# Altium schematic symbol library Cole_.SchLib: 330 symbols (part 1 of 10)
Pins are listed as number, name and electrical type; pins without a type are passive.

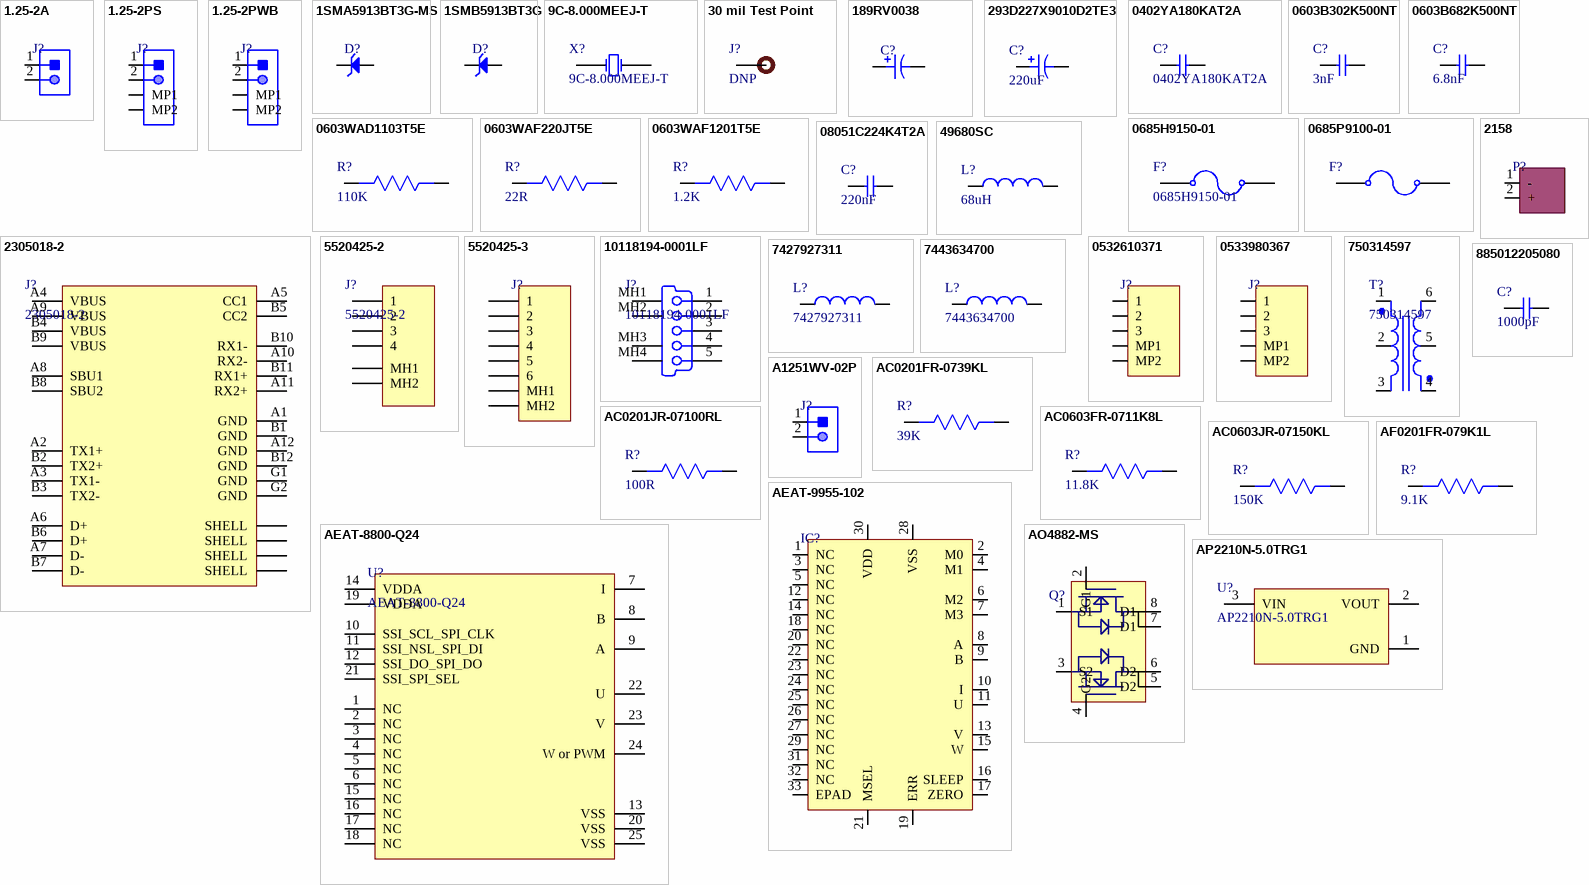
[diagram p0: symbols 1.25-2A to AP2210N-5.0TRG1]

## 1.25-2A
designator J?
1x2P 1 1.25mm Male pin 2 -25℃~+85℃ Straight Plugin,P=1.25mm Wire To Board / Wire To Wire Connector ROHS; Manufacturer: DEALON; Manufacturer Part Number: 1.25-2A; Item Type: Wire To Board Connector; ComponentLink1Description: LCSC; ComponentLink1URL: https://www.lcsc.com/product-detail/Wire-To-Board-Wire-To-Wire-Connector_DEALON-1-25-2A_C2904930.html; Package: Plugin,P=1.25mm; LCSC Part Number: C2904930
footprint 1.25-2A
pins: 1, 2

## 1.25-2PS
designator J?
1x2P 1 1.25mm Male pin 2 -65℃~+125℃ Brick nogging SMD,P=1.25mm Wire To Board / Wire To Wire Connector ROHS; Manufacturer: DEALON; Manufacturer Part Number: 1.25-2PS; Item Type: Wire To Board Connector; Package: SMD,P=1.25mm; LCSC Part Number: C2904989; ComponentLink1Description: LCSC; ComponentLink1URL: https://www.lcsc.com/product-detail/Wire-To-Board-Wire-To-Wire-Connector_DEALON-1-25-2PS_C2904989.html
footprint 1.25-2PS
pins: 1, 2, MP1, MP2

## 1.25-2PWB
designator J?
1x2P 2P 1 1.25mm 2 -40℃~+85℃ Surface Mount SMD,P=1.25mm,Surface Mount，Right Angle Wire To Board / Wire To Wire Connector ROHS; Manufacturer: DEALON; Manufacturer Part Number: 1.25-2PWB; Item Type: Wire To Board Connector; Package: SMD,P=1.25mm Right Angle; LCSC Part Number: C2905009; ComponentLink1Description: LCSC; ComponentLink1URL: https://www.lcsc.com/product-detail/Wire-To-Board-Wire-To-Wire-Connector_DEALON-1-25-2PWB_C2905009.html
footprint 1.25-2PWB
pins: 1, 2, MP1, MP2

## 1SMA5913BT3G-MS
designator D?
Single 1.5W 3.13V~3.47V 3.3V SMA Zener Diodes ROHS; Manufacturer: MSKSEMI; Manufacturer Part Number: 1SMA5913BT3G-MS; Package: SMA; LCSC Part Number: C18547722; Item Type: Zener Diode; ComponentLink1Description: LCSC; ComponentLink1URL: https://www.lcsc.com/product-detail/Zener-Diodes_MSKSEMI-1SMA5913BT3G-MS_C18547722.html
footprint SMA
pins: 1 C, 2 A

## 1SMB5913BT3G
designator D?
DIODE ZENER 3.3V 3W SMB; Manufacturer: ON Semiconductor; Manufacturer Part Number: 1SMB5913BT3G; Item Type: Zener Diodes; Supplier: Mouser; Supplier Part Number: 863-1SMB5913BT3G; RoHS: Yes; Stock: 11628; Pricing: 1=0.45, 10=0.275, 50=0.275, 100=0.142, 1000=0.112, 10000=0.091 (USD); ComponentLink1URL: https://datasheet.ciiva.com/15142/getdatasheetpartid-93375-15142588.pdf?src-supplier=Verical; ComponentLink1Description: https://datasheet.ciiva.com/15142/getdatasheetpartid-93375-15142588.pdf?src-supplier=Verical; ComponentLink2URL: https://datasheet.ciiva.com/29704/2015265-29704013.pdf?src-supplier=Jameco; ComponentLink2Description: https://datasheet.ciiva.com/29704/2015265-29704013.pdf?src-supplier=Jameco; ComponentLink3URL: https://datasheet.ciiva.com/8026/1smb5913bt3-d-8026935.pdf?src-supplier=Element14; ComponentLink3Description: https://datasheet.ciiva.com/8026/1smb5913bt3-d-8026935.pdf?src-supplier=Element14; ComponentLink4URL: https://datasheet.ciiva.com/1182/1smb5913bt3-d-1182601.pdf?src-supplier=Element14; ComponentLink4Description: https://datasheet.ciiva.com/1182/1smb5913bt3-d-1182601.pdf?src-supplier=Element14; ComponentLink5URL: https://datasheet.ciiva.com/1182/1smb5913bt3-d-1182647.pdf?src-supplier=Element14; ComponentLink5Description: https://datasheet.ciiva.com/1182/1smb5913bt3-d-1182647.pdf?src-supplier=Element14; ComponentLink6URL: https://datasheet.ciiva.com/23699/1571994-23699418.pdf?src-supplier=Newark; ComponentLink6Description: https://datasheet.ciiva.com/23699/1571994-23699418.pdf?src-supplier=Newark; ComponentLink7URL: https://datasheet.ciiva.com/22620/1smb5913bt3-d-22620236.pdf?src-supplier=Farnell; ComponentLink7Description: https://datasheet.ciiva.com/22620/1smb5913bt3-d-22620236.pdf?src-supplier=Farnell; ComponentLink8URL: https://datasheet.ciiva.com/8345/1smb5913bt3-d-8345910.pdf?src-supplier=Avnet; ComponentLink8Description: https://datasheet.ciiva.com/8345/1smb5913bt3-d-8345910.pdf?src-supplier=Avnet; ComponentLink9URL: https://datasheet.ciiva.com/8346/1smb5913bt3-d-8346583.pdf?src-supplier=Avnet; ComponentLink9Description: https://datasheet.ciiva.com/8346/1smb5913bt3-d-8346583.pdf?src-supplier=Avnet; ComponentLink10URL: https://datasheet.ciiva.com/895/1smb5913bt3-d-895188.pdf?src-supplier=Digikey; ComponentLink10Description: https://datasheet.ciiva.com/895/1smb5913bt3-d-895188.pdf?src-supplier=Digikey; ComponentLink11URL: https://datasheet.ciiva.com/895/1smb5913bt3-d-895189.pdf?src-supplier=Digikey; ComponentLink11Description: https://datasheet.ciiva.com/895/1smb5913bt3-d-895189.pdf?src-supplier=Digikey; ComponentLink12URL: https://datasheet.ciiva.com/895/1smb5913bt3-d-895190.pdf?src-supplier=Digikey; ComponentLink12Description: https://datasheet.ciiva.com/895/1smb5913bt3-d-895190.pdf?src-supplier=Digikey; ComponentLink13URL: https://datasheet.ciiva.com/14559/70099466-14559623.pdf?src-supplier=Allied+Electronics; ComponentLink13Description: https://datasheet.ciiva.com/14559/70099466-14559623.pdf?src-supplier=Allied+Electronics; LCSC Part Number: C53169
footprint SMB
pins: 1 A, 2 C

## 9C-8.000MEEJ-T
designator X?
CRYSTAL 8.0000MHZ 18PF SMD; Manufacturer: TXC; Frequency: 8MHz; Frequency Tolerance: 10ppm; ESR (Equivalent Series Resistance): 80R; Supplier 1: Digi-Key; Manufacturer Part Number: 9C-8.000MEEJ-T; RoHS: Yes; Category: Crystals; Stock 1: 1187; Pricing 1: 1=0.54000, 10=0.45000, 50=0.40500, 100=0.36000, 500=0.34200 (USD); Mount: Surface Mount; Number of Pins: 2; Min Operating Temperature: -20°C; Max Operating Temperature: 70°C; Package Quantity: 1; Load Capacitance: 18pF; Packaging: Tape and Reel; Tolerance: 10ppm; Frequency Stability: 10ppm; Termination: SMD/SMT; Series: 9C; Length: 11.4mm; Width: 0.189inch; Height: 0.161inch; Depth: 4.8mm; REACH SVHC: No SVHC; RoHS Compliant: Yes; ComponentLink1URL: https://datasheet.ciiva.com/854/9c-accuracy-854480.pdf?src-supplier=Digi-Key; ComponentLink1Description: https://datasheet.ciiva.com/854/9c-accuracy-854480.pdf?src-supplier=Digi-Key; ComponentLink2URL: https://datasheet.ciiva.com/22698/1497895-22698807.pdf?src-supplier=Element14; ComponentLink2Description: https://datasheet.ciiva.com/22698/1497895-22698807.pdf?src-supplier=Element14; ComponentLink3URL: https://datasheet.ciiva.com/28498/1497895-28498909.pdf?src-supplier=Element14; ComponentLink3Description: https://datasheet.ciiva.com/28498/1497895-28498909.pdf?src-supplier=Element14; ComponentLink4URL: https://datasheet.ciiva.com/1357/1794112-1357151.pdf?src-supplier=Element14; ComponentLink4Description: https://datasheet.ciiva.com/1357/1794112-1357151.pdf?src-supplier=Element14; ComponentLink5URL: https://datasheet.ciiva.com/854/9c-accuracy-854481.pdf?src-supplier=Digi-Key; ComponentLink5Description: https://datasheet.ciiva.com/854/9c-accuracy-854481.pdf?src-supplier=Digi-Key; ComponentLink6URL: https://datasheet.ciiva.com/4945/9c-13007-4945864.pdf?src-supplier=Mouser; ComponentLink6Description: https://datasheet.ciiva.com/4945/9c-13007-4945864.pdf?src-supplier=Mouser; ComponentLink7URL: https://datasheet.ciiva.com/854/9c-accuracy-854479.pdf?src-supplier=Digi-Key; ComponentLink7Description: https://datasheet.ciiva.com/854/9c-accuracy-854479.pdf?src-supplier=Digi-Key; Supplier Part Number 1: 887-1263-1-ND
footprint 9C-8.000MEEJ-T (CRYSTAL 8.0000MHZ 18PF SMD)
pins: 1 OSC1, 2 OSC2

## 30 mil Test Point
designator J?, comment DNP
Testing Pad 30 mil Dia; Manufacturer Part Number: 30 mil Test Point; Item type: Test Point
footprint 30 mil Test Point
pins: 1

## 189RV0038
designator C?
220uF 63V 225mA@100KHz ±20% SMD,D10xL10.5mm Aluminum Electrolytic Capacitors - SMD ROHS; Manufacturer: KNSCHA; Manufacturer Part Number: 189RV0038; Package: SMD,D10xL10.5mm; LCSC Part Number: C7471900; Item Type: Capacitor; ComponentLink1Description: LCSC; ComponentLink1URL: https://www.lcsc.com/product-detail/Aluminum-Electrolytic-Capacitors-SMD_KNSCHA-189RV0038_C7471900.html
footprint 189RV0038
pins: 1, 2

## 293D227X9010D2TE3
designator C?, comment 220uF
Cap Tant Solid 220uF 10V D CASE 10% (7.3 X 4.3 X 2.8mm) SMD 7343-31 T/R; Manufacturer: Vishay Sprague; Manufacturer Part Number: 293D227X9010D2TE3; Dielectric Material: Tantalum; ESR (Equivalent Series Resistance): 600mR; Ripple Current: 500mA; Leakage Current: 22uA; Polarity: Polar; Dissipation Factor: 8%; Q Factor: 8; Supplier 1: Digi-Key; RoHS: Yes; Category: Tantalum Capacitors; Stock 1: 83; Pricing 1: 1=1.01000, 10=0.76700, 50=0.63700, 100=0.54860 (USD); Mount: Surface Mount,PCB; Case/Package: 2917; Case Code (Metric): 7343; Case Code (Imperial): 2917; Weight: 0.023634oz; Min Operating Temperature: -55°C; Max Operating Temperature: 125°C; Capacitance: 220uF; Tolerance: 10%; Package Quantity: 1; Voltage Rating: 10V; Packaging: Tape and Reel; Voltage Rating (DC): 10V; Termination: SMD/SMT; Voltage: 10V; Features: General Purpose; Series: TANTAMOUNT® 293D; Length: 7.3mm; Width: 0.169inch; Height: 2.8mm; Depth: 4.3mm; Height - Seated (Max): 0.122inch; Radiation Hardening: No; REACH SVHC: Unknown; Lead Free: Lead Free; RoHS Compliant: Yes; ComponentLink1URL: https://datasheet.ciiva.com/11793/0900766b80d97b37-11793276.pdf?src-supplier=RSComponents; ComponentLink1Description: https://datasheet.ciiva.com/11793/0900766b80d97b37-11793276.pdf?src-supplier=RSComponents; ComponentLink2URL: https://datasheet.ciiva.com/261/293d-261025.pdf?src-supplier=Digi-Key; ComponentLink2Description: https://datasheet.ciiva.com/261/293d-261025.pdf?src-supplier=Digi-Key; ComponentLink3URL: https://datasheet.ciiva.com/16308/293d-16308133.pdf?src-supplier=Future+Electronics; ComponentLink3Description: https://datasheet.ciiva.com/16308/293d-16308133.pdf?src-supplier=Future+Electronics; ComponentLink4URL: https://datasheet.ciiva.com/3003/293d-3003943.pdf?src-supplier=Avnet; ComponentLink4Description: https://datasheet.ciiva.com/3003/293d-3003943.pdf?src-supplier=Avnet; ComponentLink5URL: https://datasheet.ciiva.com/16631/293d-16631607.pdf?src-supplier=Avnet+Europe; ComponentLink5Description: https://datasheet.ciiva.com/16631/293d-16631607.pdf?src-supplier=Avnet+Europe; ComponentLink6URL: https://datasheet.ciiva.com/261/293d-261023.pdf?src-supplier=Digi-Key; ComponentLink6Description: https://datasheet.ciiva.com/261/293d-261023.pdf?src-supplier=Digi-Key; ComponentLink7URL: https://datasheet.ciiva.com/11245/293d-11245039.pdf?src-supplier=Avnet; ComponentLink7Description: https://datasheet.ciiva.com/11245/293d-11245039.pdf?src-supplier=Avnet; ComponentLink8URL: https://datasheet.ciiva.com/261/293d-261024.pdf?src-supplier=Digi-Key; ComponentLink8Description: https://datasheet.ciiva.com/261/293d-261024.pdf?src-supplier=Digi-Key; ComponentLink9URL: https://datasheet.ciiva.com/12884/293d-239871-12884357.pdf?src-supplier=Mouser; ComponentLink9Description: https://datasheet.ciiva.com/12884/293d-239871-12884357.pdf?src-supplier=Mouser; ComponentLink10URL: https://datasheet.ciiva.com/16470/293d-16470698.pdf?src-supplier=Avnet+Asia; ComponentLink10Description: https://datasheet.ciiva.com/16470/293d-16470698.pdf?src-supplier=Avnet+Asia; ComponentLink11URL: https://datasheet.ciiva.com/22695/438417-22695147.pdf?src-supplier=Element14; ComponentLink11Description: https://datasheet.ciiva.com/22695/438417-22695147.pdf?src-supplier=Element14; ComponentLink12URL: https://datasheet.ciiva.com/1463/438417-1463357.pdf?src-supplier=Element14; ComponentLink12Description: https://datasheet.ciiva.com/1463/438417-1463357.pdf?src-supplier=Element14; ComponentLink13URL: https://datasheet.ciiva.com/29244/456112-da-01-en-smd-kondensator-293d227x9010d2te3-500-st-29244261.pdf?src-supplier=Conrad; ComponentLink13Description: https://datasheet.ciiva.com/29244/456112-da-01-en-smd-kondensator-293d227x9010d2te3-500-st-29244261.pdf?src-supplier=Conrad; Supplier Part Number 1: 718-1072-1-ND
footprint 293D227X9010D2TE3 (220uF 10V, 2917)
pins: 1, 2

## 0402YA180KAT2A
designator C?
CAP CER 18PF 16V NP0 0402; Manufacturer: Kyocera AVX; Tolerance: 10%; Dielectric: C0G; Supplier 1: Digi-Key; Manufacturer Part Number: 0402YA180KAT2A; RoHS: Yes; Category: Ceramic Capacitors; Stock 1: 28789; Pricing 1: 1=0.10000, 10=0.03000, 50=0.01640, 100=0.01350, 500=0.00962, 1000=0.00756, 2500=0.00688, 5000=0.00632 (USD); Mount: Surface Mount; Case/Package: 0402; Number of Pins: 2; Case Code (Metric): 1005; Case Code (Imperial): 0402; Weight: 2.3E-05oz; Min Operating Temperature: -55°C; Max Operating Temperature: 125°C; Capacitance: 18pF; Voltage Rating: 16V; Packaging: Tape and Reel; Package Quantity: 10000; Voltage Rating (DC): 16V; Termination: SMD/SMT; Length: 1mm; Width: 0.02inch; Height: 0.56mm; Thickness: 0.022inch; Depth: 0.5mm; Radiation Hardening: No; REACH SVHC: Unknown; ComponentLink1URL: https://datasheet.ciiva.com/206/ccog-206568.pdf?src-supplier=Digi-Key; ComponentLink1Description: https://datasheet.ciiva.com/206/ccog-206568.pdf?src-supplier=Digi-Key; ComponentLink2URL: https://datasheet.ciiva.com/5444/ccog-243403-5444889.pdf?src-supplier=Mouser; ComponentLink2Description: https://datasheet.ciiva.com/5444/ccog-243403-5444889.pdf?src-supplier=Mouser; ComponentLink3URL: https://datasheet.ciiva.com/11568/ccog-11568446.pdf?src-supplier=Avnet; ComponentLink3Description: https://datasheet.ciiva.com/11568/ccog-11568446.pdf?src-supplier=Avnet; Supplier Part Number 1: 478-0402YA180KAT2ACT-ND
footprint Cap 0402
pins: 1, 2

## 0603B302K500NT
designator C?, comment 3nF
3nF ±10% 50V X7R 0603 Multilayer Ceramic Capacitors MLCC - SMD/SMT RoHS; Manufacturer: FH(Guangdong Fenghua Advanced Tech); Package: 0603; Capacitance: 3nF; Tolerance: ±10%; Voltage - Rated: 50V; Temperature Coefficient: X7R
footprint Cap 0603
pins: 1, 2

## 0603B682K500NT
designator C?, comment 6.8nF
50V 6.8nF X7R ±10% 0603; Manufacturer: FH; Manufacturer Part Number: 0603B682K500NT; ComponentLink1Description: LCSC; ComponentLink1URL: https://www.lcsc.com/product-detail/Multilayer-Ceramic-Capacitors-MLCC-SMD-SMT_FH-Guangdong-Fenghua-Advanced-Tech-0603B682K500NT_C1631.html; Footprint: 0603; Value: 6.8nF
footprint Cap 0603
pins: 1, 2

## 0603WAD1103T5E
designator R?, comment 110K
110kΩ 0603 Chip Resistor - Surface Mount ROHS; Manufacturer: UNI-ROYAL; Manufacturer Part Number: 0603WAD1103T5E; ComponentLink1Description: LCSC; ComponentLink1URL: https://www.lcsc.com/product-detail/Chip-Resistor-Surface-Mount_UNI-ROYAL-Uniroyal-Elec-0603WAD1103T5E_C423090.html; Value: 110K; Footprint: 0603
footprint Res0603
pins: 1, 2

## 0603WAF220JT5E
designator R?, comment 22R
22Ω 0603 Chip Resistor - Surface Mount ROHS; Manufacturer: UNI-ROYAL; Manufacturer Part Number: 0603WAF220JT5E; ComponentLink1Description: LCSC; ComponentLink1URL: https://www.lcsc.com/product-detail/Chip-Resistor-Surface-Mount_UNI-ROYAL-Uniroyal-Elec-0603WAF220JT5E_C23345.html; Footprint: 0603; Value: 22R
footprint Res0603
pins: 1, 2

## 0603WAF1201T5E
designator R?, comment 1.2K
±1% 1/10W Thick Film Resistors 75V ±100ppm/℃ -55℃~+155℃ 1.2kΩ 0603 Chip Resistor - Surface Mount ROHS; Manufacturer: UNI-ROYAL; Manufacturer Part No: 0603WAF1201T5E; Value: 1.2kΩ; Package: 0603
footprint Res0603
pins: 1, 2

## 0685H9150-01
designator F?
FUSE BOARD MNT 15A 125VAC 32VDC; Manufacturer: Bel; Fuse Type: Board Mount (Cartridge Style Excluded); Voltage Rating (AC): 125V; Voltage Rating (DC): 32V; DC Cold Resistance: 2.6mR; Approvals: cURus; Supplier 1: Digi-Key; Manufacturer Part Number: 0685H9150-01; RoHS: Yes; Category: Fuses; Stock 1: 31788; Pricing 1: 1=0.29000, 5=0.27800, 10=0.26600, 50=0.23780, 100=0.22140, 250=0.19680, 500=0.16400, 1000=0.15580 (USD); Mount: Surface Mount; Case/Package: 1206; Case Code (Imperial): 1206; Case Code (Metric): 3216; Min Operating Temperature: -55°C; Max Operating Temperature: 125°C; Packaging: Tape and Reel; Current Rating: 15A; RoHS Compliant: Yes; ComponentLink1URL: http://www.farnell.com/datasheets/2571626.pdf?src-supplier=Farnell; ComponentLink1Description: http://www.farnell.com/datasheets/2571626.pdf?src-supplier=Farnell; ComponentLink2URL: http://www.farnell.com/datasheets/2571626.pdf?src-supplier=Newark; ComponentLink2Description: http://www.farnell.com/datasheets/2571626.pdf?src-supplier=Newark; ComponentLink3URL: https://belfuse.com/resources/datasheets/circuitprotection/ds-cp-c1h-series.pdf?src-supplier=Digi-Key; ComponentLink3Description: https://belfuse.com/resources/datasheets/circuitprotection/ds-cp-c1h-series.pdf?src-supplier=Digi-Key; Supplier Part Number 1: 507-1944-1-ND
footprint 0685H9150-01
pins: 1, 2

## 0685P9100-01
designator F?
FUSE BOARD MOUNT 10A 50VDC 1206; Manufacturer: Bel; Manufacturer Part Number: 0685P9100-01; Item Type: Fuses; Supplier: Digikey; Supplier Part Number: 507-2454-1-ND; RoHS: Yes; Stock: 90526; Pricing: 1=0.42, 5=0.404, 10=0.391, 50=0.3292, 100=0.2734, 250=0.24848, 500=0.21876 (USD); ComponentLink1URL: https://belfuse.com/resources/datasheets/circuitprotection/ds-CP-0685P-series.pdf?src-supplier=Digikey; ComponentLink1Description: https://belfuse.com/resources/datasheets/circuitprotection/ds-CP-0685P-series.pdf?src-supplier=Digikey; ComponentLink2URL: https://datasheet.octopart.com/0685P9100-01-Bel-Fuse-datasheet-150536702.pdf?src-supplier=Sager+Electronics; ComponentLink2Description: https://datasheet.octopart.com/0685P9100-01-Bel-Fuse-datasheet-150536702.pdf?src-supplier=Sager+Electronics
footprint Fuse 1206 (3216 Metric) (0.126" L x 0.062" W x 0.026" H (3.20mm x 1.58mm x 0.65mm))
pins: 1, 2

## 2158
designator P?
XT60 Connector Male-Female Pair, Black (Pololu); Manufacturer: Polulo; Manufacturer Part Number: 2158; Item Type: Power Connector; Package: Custom
footprint 2158
pins: 1 -, 2 +

## 08051C224K4T2A
designator C?, comment 220nF
CAP CER 0.22UF 100V X7R 0805; Manufacturer: Kyocera AVX; Manufacturer Part Number: 08051C224K4T2A; Tolerance: 10%; Supplier 1: Digi-Key; RoHS: Yes; Category: Ceramic Capacitors; Stock 1: 151; Pricing 1: 1=0.27000, 10=0.18500, 50=0.12320, 100=0.10470, 500=0.07392, 1000=0.06468 (USD); Mount: Surface Mount; Case/Package: 0805; Contact Plating: Tin; Min Operating Temperature: -55°C; Max Operating Temperature: 125°C; Termination: Wraparound; Capacitance: 220nF; Dielectric: X7R; Voltage Rating (DC): 100V; Length: 2.01mm; RoHS Compliant: Yes; ComponentLink1URL: http://datasheets.avx.com/AutoMLCC.pdf?src-supplier=Avnet+Asia; ComponentLink1Description: http://datasheets.avx.com/AutoMLCC.pdf?src-supplier=Avnet+Asia; Supplier Part Number 1: 478-13049-1-ND
footprint Cap0805 (SMD 0805)
pins: 1, 2

## 49680SC
designator L?, comment 68uH
Fixed Inductors 68uH 2.0A SMT; Manufacturer: Murata; Manufacturer Part Number: 49680SC; Tolerance: 20%; DC Resistance (DCR): 143mR; Max DC Current: 2A; Q Factor: 47; Self Resonant Frequency: 7MHz; Shielding: Shielded; Test Frequency: 10kHz; Supplier 1: Digi-Key; RoHS: Yes; Category: Fixed Inductors; Stock 1: 170; Pricing 1: 1=1.69000, 10=1.56000, 25=1.43000, 50=1.22200, 100=1.09200, 250=0.93600 (USD); Mount: Surface Mount; Case/Package: Nonstandard; Number of Pins: 2; Min Operating Temperature: -40°C; Max Operating Temperature: 85°C; Inductance: 68uH; Inductance Tolerance: 20%; Packaging: Tape and Reel; Package Quantity: 500; Resistor Type: Wirewound; Current Rating: 2A; Termination: SMD/SMT; DC Current: 2A; Series: 4900S; Length: 12.5mm; Width: 0.48inch; Height: 8mm; Height - Seated (Max): 0.315inch; Depth: 12.5mm; Radiation Hardening: No; REACH SVHC: No SVHC; Military Standard: Not; RoHS Compliant: Yes; ComponentLink1URL: https://datasheet.ciiva.com/26947/getdatasheetpartid-788595-26947648.pdf?src-supplier=Verical; ComponentLink1Description: https://datasheet.ciiva.com/26947/getdatasheetpartid-788595-26947648.pdf?src-supplier=Verical; ComponentLink2URL: https://datasheet.ciiva.com/17279/kmp-4900s-17279451.pdf?src-supplier=Avnet+Europe; ComponentLink2Description: https://datasheet.ciiva.com/17279/kmp-4900s-17279451.pdf?src-supplier=Avnet+Europe; Supplier Part Number 1: 811-3628-1-ND
footprint 49680SC
pins: 1, 2

## 2305018-2
designator J?
CONN RCP USB3.1 TYPEC 24P SMD RA
footprint 2305018-2 (CONN RCP USB3.1 TYPEC 24P SMD RA)
pins: A1 GND (power), A2 TX1+, A3 TX1-, A4 VBUS (power), A5 CC1, A6 D+, A7 D-, A8 SBU1, A9 VBUS (power), A10 RX2-, A11 RX2+, A12 GND (power), B1 GND (power), B2 TX2+, B3 TX2-, B4 VBUS (power), B5 CC2, B6 D+, B7 D-, B8 SBU2, B9 VBUS (power), B10 RX1-, B11 RX1+, B12 GND (power), G1 GND (power), G2 GND (power), S1 SHELL, S2 SHELL, S3 SHELL, S4 SHELL

## 5520425-2
designator J?
Conn RJ-25 F 6 POS 2.54mm Solder ST Thru-Hole 4 Terminal 1 Port Tray Cat 3; Manufacturer: TE Connectivity; Number of Terminals/Pins: 4; Number of Contacts: 6; Connector Type: Jack; Keyed: No; Element Configuration: Single; Number of Ports: 1; Gender: Female; Shielding: Unshielded; Max Voltage Rating (AC): 150V; Direction: User Selectable; PCB Mounting Orientation: Vertical; Current Rating: 1.5A; Contact Resistance: 30mR; Tail Length: 3.18mm; PCB Thickness: 1.57mm; Plating Thickness: 1.27um; Approvals: UL,CSA; Supplier 1: Digi-Key; Manufacturer Part Number: 5520425-2; RoHS: Yes; Category: Modular / Ethernet Connectors; Stock 1: 1404; Pricing 1: 1=1.77000, 10=1.60700, 25=1.50880, 40=1.44325, 176=1.37773, 352=1.24651, 528=1.14811, 1056=0.98408, 2464=0.91848 (USD); Contact Material: Bronze; Contact Plating: Gold; Housing Color: Black; Housing Material: PBT; Min Operating Temperature: -40°C; Max Operating Temperature: 70°C; Termination: Solder; Orientation: Straight; Number of Positions: 6; Number of Positions Loaded: 4; Package Quantity: 2816; Number of Rows: 1; Voltage Rating: 150V; Contact Gender: Female; Packaging: Tray; Length: 13.59mm; Width: 16.51mm; Pitch: 2.54mm; Depth: 16.01mm; Radiation Hardening: No; Flammability Rating: UL94 V-0; REACH SVHC: Unknown; ComponentLink1URL: https://datasheet.ciiva.com/30494/0900766b8121ec00-30494433.pdf?src-supplier=RSComponents; ComponentLink1Description: https://datasheet.ciiva.com/30494/0900766b8121ec00-30494433.pdf?src-supplier=RSComponents; ComponentLink2URL: https://datasheet.ciiva.com/685/eng-cd-5520425-d1-685288.pdf?src-supplier=Digi-Key; ComponentLink2Description: https://datasheet.ciiva.com/685/eng-cd-5520425-d1-685288.pdf?src-supplier=Digi-Key; ComponentLink3URL: https://datasheet.ciiva.com/19476/956272-19476731.pdf?src-supplier=Jameco; ComponentLink3Description: https://datasheet.ciiva.com/19476/956272-19476731.pdf?src-supplier=Jameco; ComponentLink4URL: https://datasheet.ciiva.com/30082/eng-cs-82066-mod-jacks-and-mrj21-prod-single-1107-30082071.pdf?src-supplier=Onlinecomponents.com; ComponentLink4Description: https://datasheet.ciiva.com/30082/eng-cs-82066-mod-jacks-and-mrj21-prod-single-1107-30082071.pdf?src-supplier=Onlinecomponents.com; ComponentLink5URL: https://datasheet.ciiva.com/16650/eng-cs-82066-mod-jacks-and-mrj21-prod-single-1107-16650297.pdf?src-supplier=Avnet+Europe; ComponentLink5Description: https://datasheet.ciiva.com/16650/eng-cs-82066-mod-jacks-and-mrj21-prod-single-1107-16650297.pdf?src-supplier=Avnet+Europe; ComponentLink6URL: https://datasheet.ciiva.com/8007/492544-8007818.pdf?src-supplier=Element14; ComponentLink6Description: https://datasheet.ciiva.com/8007/492544-8007818.pdf?src-supplier=Element14; ComponentLink7URL: https://datasheet.ciiva.com/3138/eng-cs-82066-mod-jacks-and-mrj21-prod-single-1107-3138668.pdf?src-supplier=Avnet; ComponentLink7Description: https://datasheet.ciiva.com/3138/eng-cs-82066-mod-jacks-and-mrj21-prod-single-1107-3138668.pdf?src-supplier=Avnet; ComponentLink8URL: https://datasheet.ciiva.com/14619/70042945-14619165.pdf?src-supplier=Allied+Electronics; ComponentLink8Description: https://datasheet.ciiva.com/14619/70042945-14619165.pdf?src-supplier=Allied+Electronics; Supplier Part Number 1: A31414-ND
footprint 5520425-2 (CONN MOD JACK 6P4C VERT UNSHLD)
pins: 1, 2, 3, 4, MH1, MH2

## 5520425-3
designator J?
CONN MOD JACK 6P6C VERT UNSHLD; Manufacturer: AMP - TE CONNECTIVITY; Manufacturer Part Number: 5520425-3; Supplier 1: Newark; RoHS: No; Category: Modular / Ethernet Connectors; ComponentLink1URL: http://www.tycoelectronics.com/catalog/pn/en/5520425-3?src-supplier=Farnell; ComponentLink1Description: http://www.tycoelectronics.com/catalog/pn/en/5520425-3?src-supplier=Farnell; ComponentLink2URL: http://www.farnell.com/datasheets/492544.pdf?src-supplier=Newark; ComponentLink2Description: http://www.farnell.com/datasheets/492544.pdf?src-supplier=Newark; ComponentLink3URL: http://www.tycoelectronics.com/catalog/pn/en/5520425-3?src-supplier=Newark; ComponentLink3Description: http://www.tycoelectronics.com/catalog/pn/en/5520425-3?src-supplier=Newark; ComponentLink4URL: https://www.te.com/commerce/DocumentDelivery/DDEController?Action=srchrtrv&DocNm=5520425&DocType=Customer+Drawing&DocLang=English&src-supplier=Digi-Key; ComponentLink4Description: https://www.te.com/commerce/DocumentDelivery/DDEController?Action=srchrtrv&DocNm=5520425&DocType=Customer+Drawing&DocLang=English&src-supplier=Digi-Key; Supplier Part Number 1: 52R4230
footprint 5520425-3
pins: 1, 2, 3, 4, 5, 6, MH1, MH2

## 10118194-0001LF
designator J?
CONN RCPT USB2.0 MICRO B SMD R/A; Manufacturer: Amphenol FCI; Gender: Receptacle; Current Rating: 1.8A; Connector Type: USB,Receptacle; Number of Contacts: 5; Insulation Resistance: 1GR; Number of Ports: 1; Max Voltage Rating (AC): 100V; Pitch: 0.65mm; Supplier 1: Digi-Key; Manufacturer Part Number: 10118194-0001LF; Stock 1: 35943; Pricing 1: 1=0.43, 10=0.405, 25=0.3648, 50=0.3242, 100=0.3107, 250=0.28368, 500=0.27016 (USD); Mount: Surface Mount,Horizontal; Color: Black; Contact Material: Copper Alloy; Contact Plating: Gold; Number of Terminals: 5; Housing Material: Polymer; Min Operating Temperature: -55°C; Max Operating Temperature: 85°C; Package Quantity: 9600; Packaging: Tape and Reel; Termination: Solder; Orientation: Right Angle; Features: Shielded; Length: 8.05mm; Depth: 5mm; Radiation Hardening: No; Lead Free: Lead Free; Flammability Rating: UL94 V-0; ComponentLink1URL: http://www.amphenol-icc.com/media/wysiwyg/files/drawing/10118194.pdf?src-supplier=Digi-Key; ComponentLink1Description: http://www.amphenol-icc.com/media/wysiwyg/files/drawing/10118194.pdf?src-supplier=Digi-Key; ComponentLink2URL: https://cdn.amphenol-icc.com/media/wysiwyg/files/drawing/10118194.pdf?src-supplier=Mouser; ComponentLink2Description: https://cdn.amphenol-icc.com/media/wysiwyg/files/drawing/10118194.pdf?src-supplier=Mouser; ComponentLink3URL: https://cdn.amphenol-icc.com/media/wysiwyg/files/drawing/10118194.pdf?src-supplier=Verical; ComponentLink3Description: https://cdn.amphenol-icc.com/media/wysiwyg/files/drawing/10118194.pdf?src-supplier=Verical; Supplier Part Number 1: 609-4618-1-ND
footprint 10118194-0001LF
pins: 1 V BUS (5V) "USB Vcc [Red]", 2 D- "USB Data - [White]", 3 D+ "USB Data + [Green]", 4 NC "Not Connected (or joined to pin 5 via resistor)", 5 GND "Ground [Black]", MH1 Tab "Shell", MH2 Tab "Shell", MH3 Tab "Shell", MH4 Tab "Shell"

## 0532610371
designator J?
CONN HEADER SMD R/A 3POS 1.25MM; Manufacturer: Molex; Manufacturer Part Number: 53261-0371; Item Type: Right Angle JST; Supplier: Mouser; Supplier Part Number: 538-53261-0371; RoHS: Yes; Category: Headers and Wire Housings; Stock: 46452; Pricing: 1=0.69, 10=0.582, 50=0.582, 100=0.452, 1000=0.359, 10000=0.275 (USD)
footprint 0532610371
pins: 1, 2, 3, MP1, MP2

## 0533980367
designator J?
CONN HEADER SMD 3POS 1.25MM; Manufacturer: Molex; Manufacturer Part Number: 0533980367; Supplier: Mouser; Supplier Part Number: 538-53398-0367; RoHS: Yes; Stock: 6777; Pricing: 1=1.41, 10=1.16, 50=1.16, 100=0.963, 1000=0.77, 10000=0.625 (USD); ComponentLink1URL: https://datasheet.ciiva.com/2944/533980367-sd-2944045.pdf?src-supplier=Digi-Key; ComponentLink1Description: https://datasheet.ciiva.com/2944/533980367-sd-2944045.pdf?src-supplier=Digi-Key
footprint 0533980367
pins: 1, 2, 3, MP1, MP2

## 750314597
designator T?
XFRMR ISOL BUCK DC/DC CONV SMD; Manufacturer: Wurth Electronics Midcom; Frequency: 150kHz; Supplier 1: Digi-Key; Manufacturer Part Number: 750314597; RoHS: Yes; Category: Power Supply Modules; Stock 1: 1132; Pricing 1: 1=3.57000, 10=3.30600, 50=3.00500, 100=2.73200 (USD); Mount: Surface Mount; Min Operating Temperature: -40°C; Max Operating Temperature: 125°C; Packaging: Tape and Reel; RoHS Compliant: No; ComponentLink1URL: http://www.mouser.com/ds/2/445/750314597-773587.pdf?src-supplier=Mouser; ComponentLink1Description: http://www.mouser.com/ds/2/445/750314597-773587.pdf?src-supplier=Mouser; ComponentLink2URL: https://katalog.we-online.de/ctm/datasheet/750314597.pdf?src-supplier=Digi-Key; ComponentLink2Description: https://katalog.we-online.de/ctm/datasheet/750314597.pdf?src-supplier=Digi-Key; Supplier Part Number 1: 1297-1165-1-ND
footprint 750314597
pins: 1 PRI_1, 2 NC, 3 PRI_2, 4 SEC_1, 5 NC, 6 SEC_2

## 7427927311
designator L?
FERRITE BEAD 120 OHM 0402 1LN; Manufacturer: Wurth Electronics; Tolerance: 25%; Current Rating: 1.2A; Impedance: 120R; DC Resistance (DCR): 90mR; Test Frequency: 100MHz; Number of Lines: 1; Supplier 1: Digi-Key; Manufacturer Part Number: 7427927311; RoHS: Yes; Category: Ferrite Beads and Chips; Stock 1: 135072; Pricing 1: 1=0.17000, 50=0.16800, 100=0.15500, 500=0.14800, 1000=0.14100, 2000=0.13400 (USD); Mount: Surface Mount; Case/Package: SMD/SMT; Case Code (Metric): 1005; Case Code (Imperial): 0402; Material: Ferrite; Min Operating Temperature: -55°C; Max Operating Temperature: 125°C; Packaging: Tape and Reel; Package Quantity: 1; Max Current Rating: 1.2A; Max DC Current: 1.2A; Termination: SMD/SMT; Series: WE-CBF; Length: 1mm; Width: 0.5mm; Height: 0.5mm; Depth: 0.5mm; REACH SVHC: Unknown; RoHS Compliant: Yes; Lead Free: Lead Free; ComponentLink1URL: https://datasheet.ciiva.com/30489/0900766b812a677a-30489140.pdf?src-supplier=RSComponents; ComponentLink1Description: https://datasheet.ciiva.com/30489/0900766b812a677a-30489140.pdf?src-supplier=RSComponents; ComponentLink2URL: https://datasheet.ciiva.com/4939/7427927311-17568-4939413.pdf?src-supplier=Mouser; ComponentLink2Description: https://datasheet.ciiva.com/4939/7427927311-17568-4939413.pdf?src-supplier=Mouser; ComponentLink3URL: https://datasheet.ciiva.com/23763/7427927311-23763033.pdf?src-supplier=Newark; ComponentLink3Description: https://datasheet.ciiva.com/23763/7427927311-23763033.pdf?src-supplier=Newark; ComponentLink4URL: https://datasheet.ciiva.com/1013/7427927311-1013500.pdf?src-supplier=Digi-Key; ComponentLink4Description: https://datasheet.ciiva.com/1013/7427927311-1013500.pdf?src-supplier=Digi-Key; ComponentLink5URL: https://datasheet.ciiva.com/1013/7427927311-1013501.pdf?src-supplier=Digi-Key; ComponentLink5Description: https://datasheet.ciiva.com/1013/7427927311-1013501.pdf?src-supplier=Digi-Key; ComponentLink6URL: https://datasheet.ciiva.com/1013/7427927311-1013502.pdf?src-supplier=Digi-Key; ComponentLink6Description: https://datasheet.ciiva.com/1013/7427927311-1013502.pdf?src-supplier=Digi-Key; Supplier Part Number 1: 732-2366-1-ND
footprint 7427927311 (FERRITE BEAD 120 OHM 0402 1LN)
pins: 1, 2

## 7443634700
designator L?
FIXED IND 47UH 12A 12.2 MOHM SMD; Manufacturer: Wurth Electronics; Manufacturer Part Number: 7443631000; Core Material: Ferrite; Current Rating: 16A; Saturation Current: 23A; Tolerance: 15%; Shielding: Shielded; Self Resonant Frequency: 13MHz; Inductance: 10uH; Resistance: 7.96R; DC Resistance (DCR): 7.96mR; Test Frequency: 100kHz; Supplier 1: RSComponents; RoHS: Yes; Category: Fixed Inductors; Stock 1: 254; Pricing 1: 1=6.58000, 10=4.90000, 20=4.57000, 50=4.22000, 100=4.01000 (GBP); Mount: Surface Mount; Case/Package: Nonstandard; Number of Pins: 3; Min Operating Temperature: -40°C; Max Operating Temperature: 125°C; Package Quantity: 100; Packaging: Cut Tape; Inductance Tolerance: 15%; Frequency: 13MHz; Resistor Type: Wirewound; Max DC Current: 16A; Termination: SMD/SMT; RMS Current (Irms): 16A; Series: WE-HCF; Length: 21.5mm; Width: 0.827inch; Height: 14mm; Height - Seated (Max): 0.551inch; Depth: 21mm; REACH SVHC: Unknown; RoHS Compliant: Yes; ComponentLink1URL: https://datasheet.ciiva.com/1053/7443631000-1053041.pdf?src-supplier=Digi-Key; ComponentLink1Description: https://datasheet.ciiva.com/1053/7443631000-1053041.pdf?src-supplier=Digi-Key; ComponentLink2URL: https://datasheet.ciiva.com/4961/7443631000-32075-4961366.pdf?src-supplier=Mouser; ComponentLink2Description: https://datasheet.ciiva.com/4961/7443631000-32075-4961366.pdf?src-supplier=Mouser; ComponentLink3URL: https://datasheet.ciiva.com/7265/1243404-7265034.pdf?src-supplier=Newark; ComponentLink3Description: https://datasheet.ciiva.com/7265/1243404-7265034.pdf?src-supplier=Newark; ComponentLink4URL: https://datasheet.ciiva.com/7765/1735809-7765147.pdf?src-supplier=Element14; ComponentLink4Description: https://datasheet.ciiva.com/7765/1735809-7765147.pdf?src-supplier=Element14; ComponentLink5URL: https://datasheet.ciiva.com/11801/0900766b80febd1c-11801949.pdf?src-supplier=RSComponents; ComponentLink5Description: https://datasheet.ciiva.com/11801/0900766b80febd1c-11801949.pdf?src-supplier=RSComponents; ComponentLink6URL: https://datasheet.ciiva.com/1053/7443631000-1053042.pdf?src-supplier=Digi-Key; ComponentLink6Description: https://datasheet.ciiva.com/1053/7443631000-1053042.pdf?src-supplier=Digi-Key; ComponentLink7URL: https://datasheet.ciiva.com/1053/7443631000-1053043.pdf?src-supplier=Digi-Key; ComponentLink7Description: https://datasheet.ciiva.com/1053/7443631000-1053043.pdf?src-supplier=Digi-Key; Supplier Part Number 1: 7445047
footprint 7443634700
pins: 1, 2

## 885012205080
designator C?, comment 1000pF
CAP CER 1000PF 100V X7R 0402; Manufacturer: Wurth Electronics; Manufacturer Part Number: 885012205080; Supplier 1: Digi-Key; RoHS: Yes; Stock 1: 13604; Pricing 1: 1=0.10000, 10=0.01900, 100=0.01730, 500=0.01532 (USD); ComponentLink1URL: https://katalog.we-online.de/pbs/datasheet/885012205080.pdf?src-supplier=Digi-Key; ComponentLink1Description: https://katalog.we-online.de/pbs/datasheet/885012205080.pdf?src-supplier=Digi-Key; Supplier Part Number 1: 732-12243-1-ND
footprint Cap 0402
pins: 1, 2

## A1251WV-02P
designator J?
1x2P 1 1.25mm Male pin 2 -25℃~+85℃ 1A Straight Plugin,P=1.25mm Wire To Board / Wire To Wire Connector ROHS; Manufacturer: HR(Joint Tech Elec); Manufacturer Part Number: A1251WV-02P; Item Type: Wire To Board Connector; ComponentLink1Description: LCSC; ComponentLink1URL: https://www.lcsc.com/product-detail/Wire-To-Board-Wire-To-Wire-Connector_HR-Joint-Tech-Elec-A1251WV-02P_C462105.html; Package: Plugin,P=1.25mm; LCSC Part Number: C462105
footprint A1251WV-02P
pins: 1, 2

## AC0201FR-0739KL
designator R?, comment 39K
RES SMD 39K OHM 1% 1/20W 0201; Manufacturer: Yageo; Manufacturer Part Number: AC0201FR-0739KL; Resistance: 39kR; Max Power Dissipation: 50mW; Temperature Coefficient: 200ppm/°C; Supplier 1: Digi-Key; RoHS: Yes; Category: Chip SMD Resistors; Stock 1: 15940; Pricing 1: 1=0.10000, 10=0.06600, 100=0.02670, 1000=0.01201, 2500=0.01042, 5000=0.00861 (USD); Case/Package: 0201; Min Operating Temperature: -55°C; Max Operating Temperature: 155°C; Packaging: Tape and Reel; Resistor Type: Thick Film; Number of Terminations: 2; Tolerance: 1%; Features: Moisture Resistant,Automotive AEC-Q200; Length: 0.024inch; Width: 0.012inch; Height: 0.01inch; RoHS Compliant: Yes; ComponentLink1URL: http://www.yageo.com/NewPortal/yageodocoutput?fileName=/pdf/R-Chip/PYu-AC_51_RoHS_L_6.pdf&src-supplier=Digi-Key; ComponentLink1Description: http://www.yageo.com/NewPortal/yageodocoutput?fileName=/pdf/R-Chip/PYu-AC_51_RoHS_L_6.pdf&src-supplier=Digi-Key; ComponentLink2URL: http://www.yageo.com/NewPortal/yageodocoutput?fileName=/pdf/R-Chip/PYu-AC_51_RoHS_L_5.pdf&src-supplier=Digi-Key; ComponentLink2Description: http://www.yageo.com/NewPortal/yageodocoutput?fileName=/pdf/R-Chip/PYu-AC_51_RoHS_L_5.pdf&src-supplier=Digi-Key; Supplier Part Number 1: YAG5203CT-ND
footprint Res-0201
pins: 1, 2

## AC0201JR-07100RL
designator R?, comment 100R
RES SMD 100 OHM 5% 1/20W 0201; Manufacturer: Yageo; Manufacturer Part Number: AC0201JR-07100RL; Max Power Dissipation: 50mW; Temperature Coefficient: 200ppm/°C; Supplier 1: Digi-Key; RoHS: Yes; Category: Chip SMD Resistors; Stock 1: 7800; Pricing 1: 1=0.10000, 10=0.04900, 100=0.02000, 1000=0.00899, 2500=0.00780, 5000=0.00645 (USD); Case/Package: 0201; Case Code (Imperial): 0201; Case Code (Metric): 0603; Min Operating Temperature: -55°C; Max Operating Temperature: 155°C; Tolerance: 5%; Packaging: Tape and Reel; Resistance: 100R; Resistor Type: Thick Film; Number of Terminations: 2; Features: Moisture Resistant,Automotive AEC-Q200; Length: 0.024inch; Width: 0.012inch; Height: 0.01inch; ComponentLink1URL: http://www.yageo.com/NewPortal/yageodocoutput?fileName=/pdf/R-Chip/PYu-AC_51_RoHS_L_6.pdf&src-supplier=Digi-Key; ComponentLink1Description: http://www.yageo.com/NewPortal/yageodocoutput?fileName=/pdf/R-Chip/PYu-AC_51_RoHS_L_6.pdf&src-supplier=Digi-Key; Supplier Part Number 1: YAG3429CT-ND
footprint Res-0201
pins: 1, 2

## AC0603FR-0711K8L
designator R?, comment 11.8K
RES SMD 11.8K OHM 1% 1/10W 0603; Manufacturer: Yageo; Manufacturer Part Number: AC0603FR-0711K8L; Resistance: 11.8kR; Max Power Dissipation: 100mW; Temperature Coefficient: 100ppm/°C; Supplier 1: Avnet; RoHS: Yes; Category: Chip SMD Resistors; Pricing 1: 5000=0.00176, 10000=0.00174, 20000=0.00169, 30000=0.00165, 40000=0.00159, 50000=0.00155, 500000=0.00151 (USD); Case/Package: 0603; Min Operating Temperature: -55°C; Max Operating Temperature: 155°C; Packaging: Tape and Reel; Resistor Type: Thick Film; Number of Terminations: 2; Tolerance: 1%; Features: Moisture Resistant,Automotive AEC-Q200; Length: 0.063inch; Width: 0.031inch; Height: 0.022inch; RoHS Compliant: Yes; ComponentLink1URL: http://www.yageo.com/NewPortal/yageodocoutput?fileName=/pdf/R-Chip/PYu-AC_51_RoHS_L_6.pdf&src-supplier=Digi-Key; ComponentLink1Description: http://www.yageo.com/NewPortal/yageodocoutput?fileName=/pdf/R-Chip/PYu-AC_51_RoHS_L_6.pdf&src-supplier=Digi-Key; Supplier Part Number 1: AC0603FR-0711K8L
footprint Res0603
pins: 1, 2

## AC0603JR-07150KL
designator R?, comment 150K
RES SMD 150K OHM 5% 1/10W 0603; Manufacturer: Yageo; Manufacturer Part Number: AC0603JR-07150KL; Voltage Rating: 50V; Power Rating: 100mW; Resistance: 150kR; Temperature Coefficient: 100ppm/°C; Supplier 1: RSComponents; RoHS: Yes; Category: Chip SMD Resistors; Stock 1: 11500; Pricing 1: 2500=0.00800, 5000=0.00700, 7500=0.00700, 10000=0.00600 (GBP); Case/Package: 0603; Case Code (Imperial): 0603; Case Code (Metric): 1608; Weight: 7.1E-05oz; Min Operating Temperature: -55°C; Max Operating Temperature: 155°C; Packaging: Tape and Reel; Tolerance: 5%; Resistor Type: Thick Film; Number of Terminations: 2; Termination: SMD/SMT; Max Power Dissipation: 100mW; Features: Moisture Resistant,Automotive AEC-Q200; Series: AC; Length: 0.063inch; Width: 0.031inch; Height: 0.022inch; RoHS Compliant: Yes; ComponentLink1URL: https://datasheet.ciiva.com/12576/pyu-ac-51-rohs-l-2-12576426.pdf?src-supplier=Mouser; ComponentLink1Description: https://datasheet.ciiva.com/12576/pyu-ac-51-rohs-l-2-12576426.pdf?src-supplier=Mouser; Supplier Part Number 1: 1978118P
footprint Res0603
pins: 1, 2

## AEAT-8800-Q24
designator U?
ROTARY ENCODER MAGNETIC 4096PPR; Manufacturer: Broadcom Avago; Output Type: SSI; Pulses per Revolution: 4096; Detent: No; Supplier 1: Digi-Key; Manufacturer Part Number: AEAT-8800-Q24; RoHS: Yes; Stock 1: 4717; Pricing 1: 1=8.00000, 10=7.63600, 25=6.94480, 100=5.99940, 250=5.45400, 500=5.05404, 1000=4.69044 (USD); Mount: Surface Mount; Encoder Type: Magnetic; Built in Switch: No; Orientation: Vertical; Termination: SMD/SMT; RoHS Compliant: Yes; ComponentLink1URL: https://docs.broadcom.com/docs/pub-005906?src-supplier=Digi-Key; ComponentLink1Description: https://docs.broadcom.com/docs/pub-005906?src-supplier=Digi-Key; Supplier Part Number 1: 516-3787-ND
footprint QFN-24
pins: 1 NC, 2 NC, 3 NC, 4 NC, 5 NC, 6 NC, 7 I, 8 B, 9 A, 10 SSI_SCL_SPI_CLK, 11 SSI_NSL_SPI_DI, 12 SSI_DO_SPI_DO, 13 VSS, 14 VDDA, 15 NC, 16 NC, 17 NC, 18 NC, 19 VDDA, 20 VSS, 21 SSI_SPI_SEL, 22 U, 23 V, 24 W or PWM, 25 VSS

## AEAT-9955-102
designator IC?
18B SINGLE MAG ENC MULTIPLE AXIS; Manufacturer: Broadcom Limited; Itme Type: IC; Manufacturer Part Number: AEAT-9955; Package: 32-QFN; ComponentLink1Description: Mouser; ComponentLink1URL: https://eu.mouser.com/new/broadcom/broadcom-aeat9955-magnetic-encoder/?_gl=1*1w4ayrc*_ga*MTM5MjY1MjMxNy4xNzAwNjMzMjcy*_ga_15W4STQT4T*MTcwMDYzMzI3Mi4xLjAuMTcwMDYzMzI3NS41Ny4wLjA.
footprint 32-QFN (5x5) (32pins, 5x5mm body, 0.5mm pitch QFN package)
pins: 1 NC, 2 M0, 3 NC, 4 M1, 5 NC, 6 M2, 7 M3, 8 A, 9 B, 10 I, 11 U, 12 NC, 13 V, 14 NC, 15 W, 16 SLEEP, 17 ZERO, 18 NC, 19 ERR, 20 NC, 21 MSEL, 22 NC, 23 NC, 24 NC, 25 NC, 26 NC, 27 NC, 28 VSS, 29 NC, 30 VDD, 31 NC, 32 NC, 33 EPAD

## AF0201FR-079K1L
designator R?, comment 9.1K
RES SMD 9.1K OHM 1% 1/20W 0201; Manufacturer: Yageo; Manufacturer Part Number: AF0201FR-079K1L; Resistance: 9.1kR; Max Power Dissipation: 50mW; Temperature Coefficient: 200ppm/°C; Supplier 1: Avnet; RoHS: Yes; Category: Chip SMD Resistors; Pricing 1: 10000=0.00568, 20000=0.00560, 40000=0.00544, 60000=0.00532, 80000=0.00512, 100000=0.00500, 1000000=0.00488 (USD); Case/Package: 0201; Min Operating Temperature: -55°C; Max Operating Temperature: 125°C; Packaging: Tape and Reel; Resistor Type: Thick Film; Number of Terminations: 2; Tolerance: 1%; Features: Moisture Resistant,Anti-Sulfur; Length: 0.024inch; Width: 0.012inch; Height: 0.01inch; RoHS Compliant: Yes; ComponentLink1URL: http://www.yageo.com/documents/recent/PYu-AF_51_RoHS_L_5.pdf?src-supplier=Digi-Key; ComponentLink1Description: http://www.yageo.com/documents/recent/PYu-AF_51_RoHS_L_5.pdf?src-supplier=Digi-Key; Supplier Part Number 1: AF0201FR-079K1L
footprint Res-0201
pins: 1, 2

## AO4882-MS
designator Q?
40V 6A 25mΩ@10V,6A 1.9W 1.6V@250uA 76pF@15V 2 N-Channel 1.013nF@15V 9.8nC@4.5V -55℃~+150℃@(Tj) SOP-8 MOSFETs ROHS; Manufacturer: MSKSEMI; Manufacturer Part Number: AO4882-MS; Footprint: SOP-8; ComponentLink1Description: LCSC; ComponentLink1URL: https://www.lcsc.com/product-detail/MOSFETs_MSKSEMI-AO4882-MS_C2847038.html
footprint AO4882-MS
pins: 1 S1, 2 G1, 3 S2, 4 G2, 5 D2, 6 D2, 7 D1, 8 D1

## AP2210N-5.0TRG1
designator U?
IC REG LINEAR 5V 300MA SOT23-3; Manufacturer: Diodes; Dropout Voltage: 500mV; Number of Regulators: 1; Polarity: Positive; Quiescent Current: 180uA; Accuracy: 1%; Max Input Voltage: 13.2V; Min Input Voltage: 2.5V; Output Type: Fixed; Max Supply Current: 15mA; Power Supply Rejection Ratio (PSRR): 75dB; Supplier 1: Digi-Key; Manufacturer Part Number: AP2210N-5.0TRG1; RoHS: Yes; Category: Voltage Regulators - Linear; Stock 1: 28; Pricing 1: 1=0.43000, 10=0.32600, 25=0.29400, 100=0.20300, 250=0.17096, 500=0.13890, 1000=0.10685 (USD); Mount: Surface Mount; Case/Package: TO-236-3; Number of Pins: 3; Contact Plating: Tin; Min Operating Temperature: -40°C; Max Operating Temperature: 125°C; Packaging: Tape and Reel; Output Voltage: 5V; Output Current: 300mA; Number of Outputs: 1; Max Output Current: 300mA; Output Configuration: Positive; Min Output Voltage: 5V; RoHS Compliant: Yes; ComponentLink1URL: https://datasheet.ciiva.com/70043/ap2210-70043557.pdf?src-supplier=Digi-Key; ComponentLink1Description: https://datasheet.ciiva.com/70043/ap2210-70043557.pdf?src-supplier=Digi-Key; Supplier Part Number 1: AP2210N-5.0TRG1DICT-ND
footprint SOT-23 (TRANS NPN 40V 0.6A SOT23)
pins: 1 GND, 2 VOUT, 3 VIN

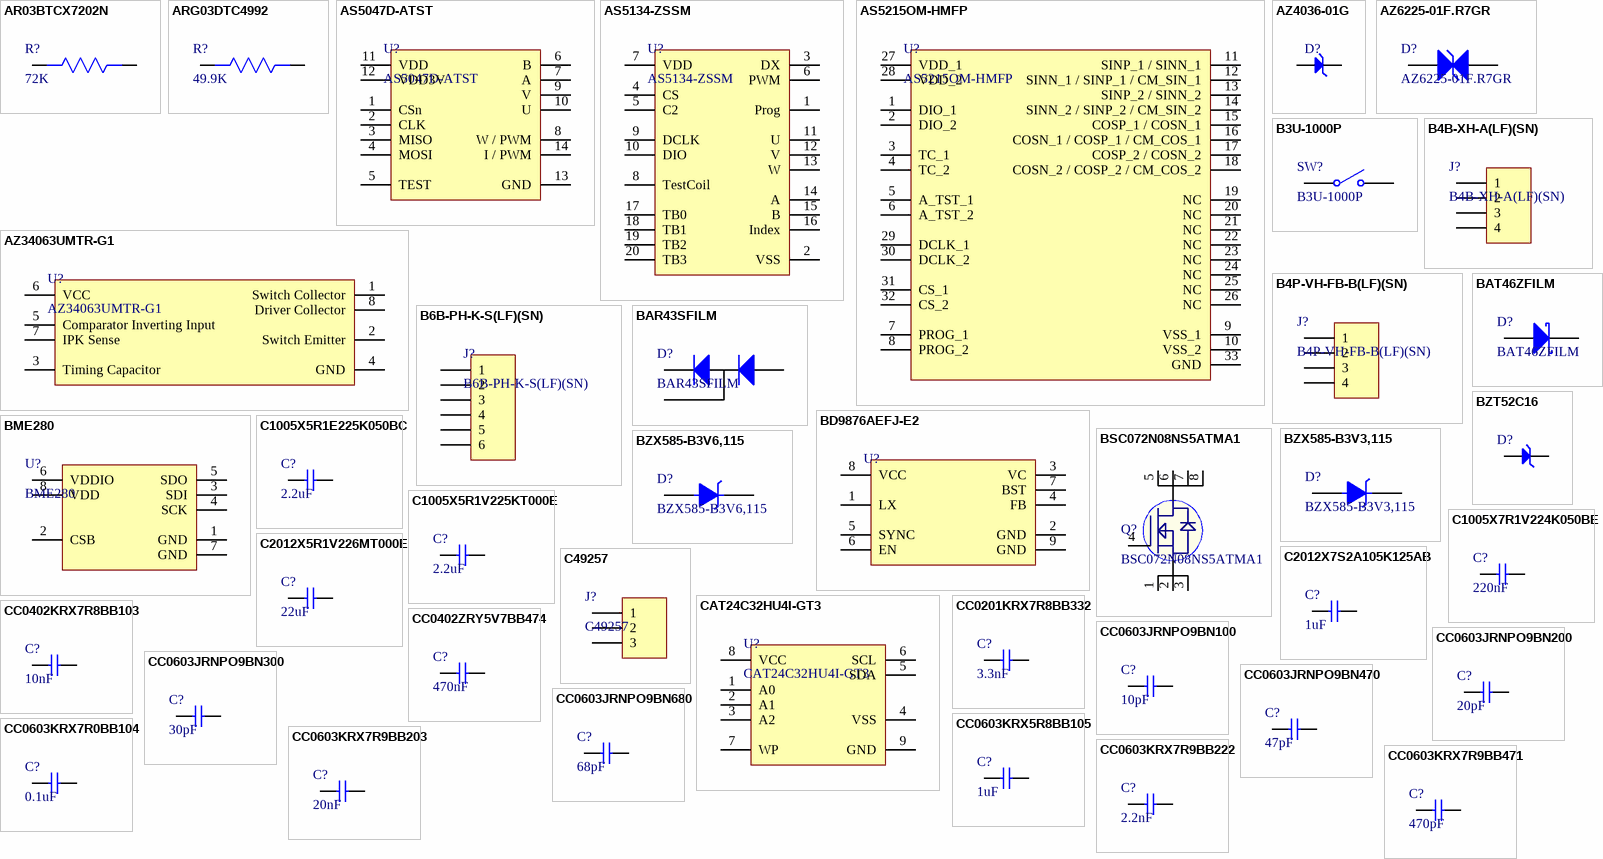
[diagram p1: symbols AR03BTCX7202N to CC0603KRX7R9BB471]

## AR03BTCX7202N
designator R?, comment 72K
±0.1% 1/16W Thin Film Resistor 50V ±25ppm/℃ -55℃~+155℃ 72kΩ 0603 Chip Resistor - Surface Mount ROHS; Manufacturer: Viking; Manufacturer Part No: AR03BTCX7202N; Package: 0603; Value: 72K
footprint Res0603
pins: 1, 2

## ARG03DTC4992
designator R?, comment 49.9K
±0.5% 100mW Thin Film Resistor 75V ±25ppm/℃ -55℃~+155℃ 49.9kΩ 0603 Chip Resistor - Surface Mount ROHS; Manufacturer: Viking; Manufacturer Part No: ARG03DTC4992; Package: 0603; Value: 49.9k
footprint Res0603
pins: 1, 2

## AS5047D-ATST
designator U?
ROTARY ENCODER MAGNETIC PROG; Manufacturer: ams; Detent: No; Output Type: PWM; Supplier 1: Digi-Key; Manufacturer Part Number: AS5047D-ATST; RoHS: Yes; Category: Integrated Circuits (ICs); Stock 1: 510; Pricing 1: 1=6.83000, 10=6.13000, 25=5.79560, 100=5.02280, 250=4.76524, 500=4.27582, 1000=3.64500 (USD); Mount: Surface Mount; Termination: SMD/SMT; Encoder Type: Magnetic; Built in Switch: No; RoHS Compliant: Yes; ComponentLink1URL: https://ams.com/documents/20143/36005/AS5047D_DS000394_2-00.pdf?src-supplier=Digi-Key; ComponentLink1Description: https://ams.com/documents/20143/36005/AS5047D_DS000394_2-00.pdf?src-supplier=Digi-Key; ComponentLink2URL: http://ams.com/eng/content/download/595083/1609657/320155?src-supplier=Digi-Key; ComponentLink2Description: http://ams.com/eng/content/download/595083/1609657/320155?src-supplier=Digi-Key; Supplier Part Number 1: AS5047D-ATSTCT-ND
footprint AS5047D-ATST
pins: 1 CSn, 2 CLK, 3 MISO, 4 MOSI, 5 TEST, 6 B, 7 A, 8 W / PWM, 9 V, 10 U, 11 VDD, 12 VDD3V, 13 GND, 14 I / PWM

## AS5134-ZSSM
designator U?
ROTARY ENCODER MAGNETIC
footprint AS5134-ZSSM
pins: 1 Prog, 2 VSS, 3 DX, 4 CS, 5 C2, 6 PWM, 7 VDD, 8 TestCoil, 9 DCLK, 10 DIO, 11 U, 12 V, 13 W, 14 A, 15 B, 16 Index, 17 TB0, 18 TB1, 19 TB2, 20 TB3

## AS5215OM-HMFP
designator U?
IC ENCODER PROG 32QFN; Manufacturer: ams TAOS; Output Type: Analog; Operating Supply Current: 28mA; Supplier 1: Digi-Key; Manufacturer Part Number: AS5215OM-HMFP; RoHS: Yes; Category: Magnetic Sensors; Pricing 1: 4000=7.56000 (USD); Case/Package: QFN; Number of Pins: 32; Min Operating Temperature: -40°C; Max Operating Temperature: 150°C; Package Quantity: 4000; Packaging: Tape and Reel; Supplier Part Number 1: AS5215OM-HMFP-ND
footprint 32 QFN (32pins, 5x5mm body, 0.5mm pitch QFN package)
pins: 1 DIO_1, 2 DIO_2, 3 TC_1, 4 TC_2, 5 A_TST_1, 6 A_TST_2, 7 PROG_1, 8 PROG_2, 9 VSS_1, 10 VSS_2, 11 SINP_1 / SINN_1, 12 SINN_1 / SINP_1 / CM_SIN_1, 13 SINP_2 / SINN_2, 14 SINN_2 / SINP_2 / CM_SIN_2, 15 COSP_1 / COSN_1, 16 COSN_1 / COSP_1 / CM_COS_1, 17 COSP_2 / COSN_2, 18 COSN_2 / COSP_2 / CM_COS_2, 19 NC, 20 NC, 21 NC, 22 NC, 23 NC, 24 NC, 25 NC, 26 NC, 27 VDD_1, 28 VDD_2, 29 DCLK_1, 30 DCLK_2, 31 CS_1, 32 CS_2, 33 GND

## AZ4036-01G
designator D?
TVS DEVICE HIGH VOLTAGE 1-CH 36V; Manufacturer: Amazing; Manufacturer Part Number: AZ4036-01G; Item Type: Diode; Package: SOD-123; LCSC Part Number: -; ComponentLink1Description: Digikey; ComponentLink1URL: https://www.digikey.com/en/products/detail/amazing/AZ4036-01G/16615419?s=N4IgTCBcDaIIIC0AsAGAzANgLQoIwHEQBdAXyA
footprint SOD-123 (DIODE SCHOTTKY 100V 150MA SOD123)
pins: 1 K, 2 A

## AZ6225-01F.R7GR
designator D?
Bidirectional 2.5V 3.5V 5V 20A (8/20us) DFN1006P2E TVS RoHS; Manufacturer: AMAZING; Package: DFN1006P2E; Polarity: Bidirectional; Voltage - Reverse Standoff (Typ): 2.5V; Voltage - Breakdown (Min): 3.5V; Voltage - Clamping (Max) @ Ipp: 5V; Current - Peak Pulse (10/1000μs): 20A (8/20us)
footprint AZ6225-01F.R7GR (Bidirectional 2.5V 3.5V 5V 20A (8/20us) DFN1006P2E TVS RoHS)
pins: 1 A1, 2 A2

## AZ34063UMTR-G1
designator U?
IC REG BUCK BST ADJ 1.5A 8SOIC; Manufacturer: Diodes; Number of Outputs: 1; Output Voltage: 36V; Min Input Voltage: 3V; Min Output Voltage: 1.25V; Switching Frequency: 180kHz; Synchronous Rectifier: No; Operating Supply Current: 4mA; Output Type: Adjustable; Supplier 1: RSComponents; Manufacturer Part Number: AZ34063UMTR-G1; RoHS: Yes; Category: Power Supply Modules; Stock 1: 2450; Pricing 1: 800=0.18900, 2000=0.13800 (GBP); Mount: Surface Mount; Case/Package: SOIC; Number of Pins: 8; Weight: 0.00261oz; Min Operating Temperature: -40°C; Max Operating Temperature: 85°C; Packaging: Tape and Reel; Max Output Current: 1.5A; Max Input Voltage: 36V; Package Quantity: 4000; Max Output Voltage: 36V; Output Current: 1.5A; Min Supply Voltage: 3V; Operating Supply Voltage: 36V; Length: 5.1mm; Width: 4mm; Height: 1.45mm; Lead Free: Lead Free; RoHS Compliant: Yes; ComponentLink1URL: https://datasheet.ciiva.com/29734/az34063u-29734577.pdf?src-supplier=Digi-Key; ComponentLink1Description: https://datasheet.ciiva.com/29734/az34063u-29734577.pdf?src-supplier=Digi-Key; ComponentLink2URL: https://datasheet.ciiva.com/29734/az34063u-29734583.pdf?src-supplier=Digi-Key; ComponentLink2Description: https://datasheet.ciiva.com/29734/az34063u-29734583.pdf?src-supplier=Digi-Key; ComponentLink3URL: https://datasheet.ciiva.com/29734/az34063u-29734572.pdf?src-supplier=Digi-Key; ComponentLink3Description: https://datasheet.ciiva.com/29734/az34063u-29734572.pdf?src-supplier=Digi-Key; Supplier Part Number 1: 8287612P
footprint SOIC-8
pins: 1 Switch Collector, 2 Switch Emitter, 3 Timing Capacitor, 4 GND, 5 Comparator Inverting Input, 6 VCC, 7 IPK Sense, 8 Driver Collector